# Altium footprint library MCP25625T-E_SS.PcbLib: 1 footprints
Each footprint in its own frame and in the unit in brackets; x right, y up, seen from the top. Pads: shape width x height; smd on the part's side, far side on the other; paste and mask are expansions set on the pad; w line width, h text height; cw(c..) or ccw(c..) is an arc to the next point about the centre after c.
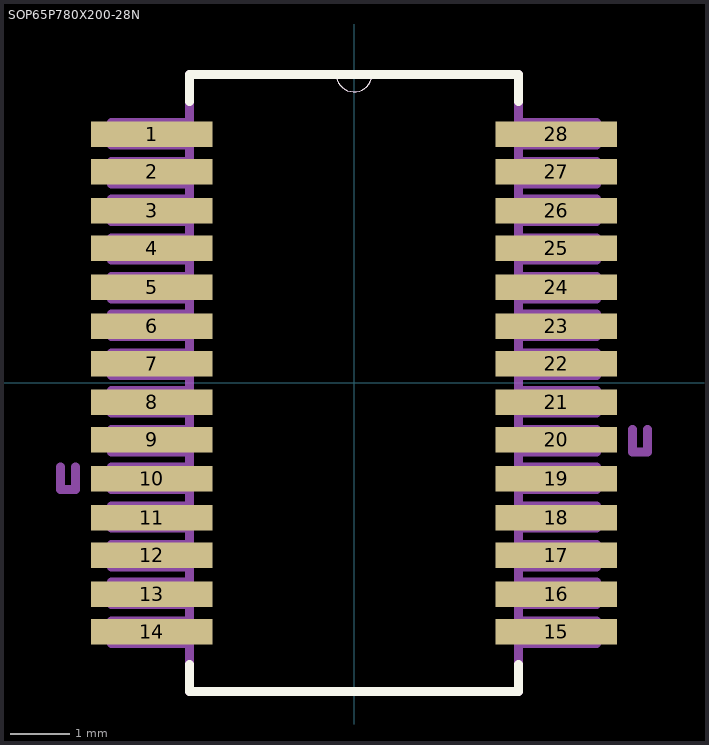
[diagram p0: the footprint, top view; thin cyan lines are the x and y axes]

## SOP65P780X200-28N [mil]
pads (28):
  rect 81x17 smd: 1(-135,166) 2(-135,141) 3(-135,115) 4(-135,90) 5(-135,64) 6(-135,38) 7(-135,13) 8(-135,-13) 9(-135,-38) 10(-135,-64) 11(-135,-90) 12(-135,-115) 13(-135,-141) 14(-135,-166) 15(135,-166) 16(135,-141) 17(135,-115) 18(135,-90) 19(135,-64) 20(135,-38) 21(135,-13) 22(135,13) 23(135,38) 24(135,64) 25(135,90) 26(135,115) 27(135,141) 28(135,166)
Top Overlay:
  lines w0: -12,206.08 ccw(c0,206.5) 12,206.92 ; -12,206.08 ccw(c0,206.5) 12,206.92 ; -12,206.08 ccw(c0,206.5) 12,206.92
  lines w6: -110,-188 -110,-206 110,-206 110,-188 ; -110,188 -110,206 -12,206 110,206 110,188
Mechanical 13:
  lines w0: -12,206.08 ccw(c0,206.5) 12,206.92 ; -12,206.08 ccw(c0,206.5) 12,206.92 ; -12,206.08 ccw(c0,206.5) 12,206.92
  lines w6: -196,-56 -196,-71 -186,-71 -186,-56 ; 186,-31 186,-46 196,-46 196,-31 ; -162,-174 -110,-174 -110,-159 -162,-159 -162,-174 ; -162,-148 -110,-148 -110,-133 -162,-133 -162,-148 ; -162,-123 -110,-123 -110,-108 -162,-108 -162,-123 ; -162,-97 -110,-97 -110,-82 -162,-82 -162,-97 ; -162,-71 -110,-71 -110,-56 -162,-56 -162,-71 ; -162,-46 -110,-46 -110,-31 -162,-31 -162,-46 ; -162,-20 -110,-20 -110,-5 -162,-5 -162,-20 ; -162,5 -110,5 -110,20 -162,20 -162,5 ; -162,31 -110,31 -110,46 -162,46 -162,31 ; -162,56 -110,56 -110,71 -162,71 -162,56 ; -162,82 -110,82 -110,97 -162,97 -162,82 ; -162,108 -110,108 -110,123 -162,123 -162,108 ; -162,133 -110,133 -110,148 -162,148 -162,133 ; -162,159 -110,159 -110,174 -162,174 -162,159 ; -110,-206 -110,206 -12,206 110,206 110,-206 -110,-206 ; 110,-174 162,-174 162,-159 110,-159 110,-174 ; 110,-148 162,-148 162,-133 110,-133 110,-148 ; 110,-123 162,-123 162,-108 110,-108 110,-123 ; 110,-97 162,-97 162,-82 110,-82 110,-97 ; 110,-71 162,-71 162,-56 110,-56 110,-71 ; 110,-46 162,-46 162,-31 110,-31 110,-46 ; 110,-20 162,-20 162,-5 110,-5 110,-20 ; 110,5 162,5 162,20 110,20 110,5 ; 110,31 162,31 162,46 110,46 110,31 ; 110,56 162,56 162,71 110,71 110,56 ; 110,82 162,82 162,97 110,97 110,82 ; 110,108 162,108 162,123 110,123 110,108 ; 110,133 162,133 162,148 110,148 110,133 ; 110,159 162,159 162,174 110,174 110,159
  text "*" at -168,178 h50
  text "*" at -168,178 h50
  text "*" at -168,178 h50
  text "*" at -168,178 h50
  text "*" at -168,178 h50
  text "*" at -168,178 h50
3D body "step_temp.STEP": height 78.74, standoff 0, extent -153.54,-200.79 153.54,200.79